# EAGLE library part AD1871 (library newchips)
AD Stereo Audio, 24-Bit, 96 kHz, Multibit sigma-delta ADC
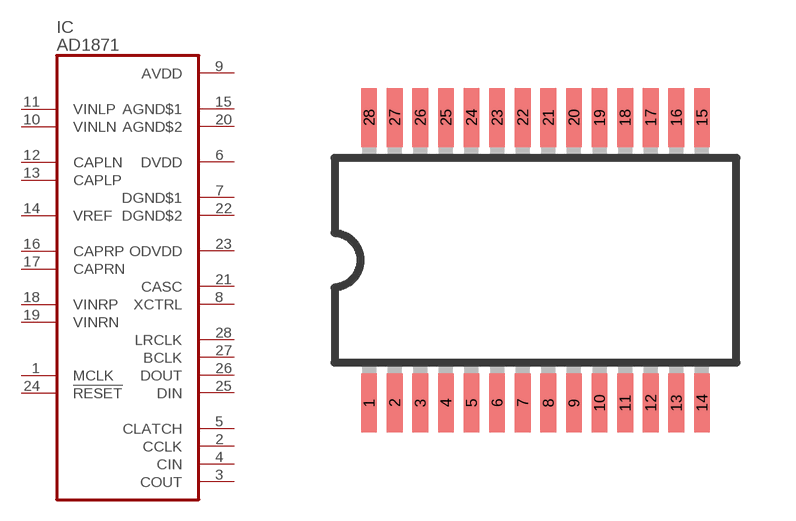
[diagram p22: symbol with the pads of SSOP28; footprint SSOP28]

Designator prefix IC

## AD1871  [SSOP28]
1  MCLK  in
2  CCLK  in
3  COUT  out
4  CIN  in
5  CLATCH  in
6  DVDD  pwr
7  DGND$1  pwr
8  XCTRL  in
9  AVDD  pwr
10  VINLN  in
11  VINLP  in
12  CAPLN  in
13  CAPLP  in
14  VREF  in
15  AGND$1  pwr
16  CAPRP  in
17  CAPRN  in
18  VINRP  in
19  VINRN  in
20  AGND$2  pwr
21  CASC  in
22  DGND$2  pwr
23  ODVDD  pwr
24  !RESET  in
25  DIN  in
26  DOUT  out
27  BCLK  in
28  LRCLK  in

## Footprint SSOP28 (pad centres in mm)
smd 0.4 x 1.5: 1 -4.225,-3.625; 2 -3.575,-3.625; 3 -2.925,-3.625; 4 -2.275,-3.625; 5 -1.625,-3.625; 6 -0.975,-3.625; 7 -0.325,-3.625; 8 0.325,-3.625; 9 0.975,-3.625; 10 1.625,-3.625; 11 2.275,-3.625; 12 2.925,-3.625; 13 3.575,-3.625; 14 4.225,-3.625; 15 4.225,3.625; 16 3.575,3.625; 17 2.925,3.625; 18 2.275,3.625; 19 1.625,3.625; 20 0.975,3.625; 21 0.325,3.625; 22 -0.325,3.625; 23 -0.975,3.625; 24 -1.625,3.625; 25 -2.275,3.625; 26 -2.925,3.625; 27 -3.575,3.625; 28 -4.225,3.625